# Altium footprint library CONN-TH_MTE210-20RL.PcbLib: 1 footprints
Each footprint in its own frame and in the unit in brackets; x right, y up, seen from the top. Pads: shape width x height; smd on the part's side, far side on the other; paste and mask are expansions set on the pad; w line width, h text height; cw(c..) or ccw(c..) is an arc to the next point about the centre after c.
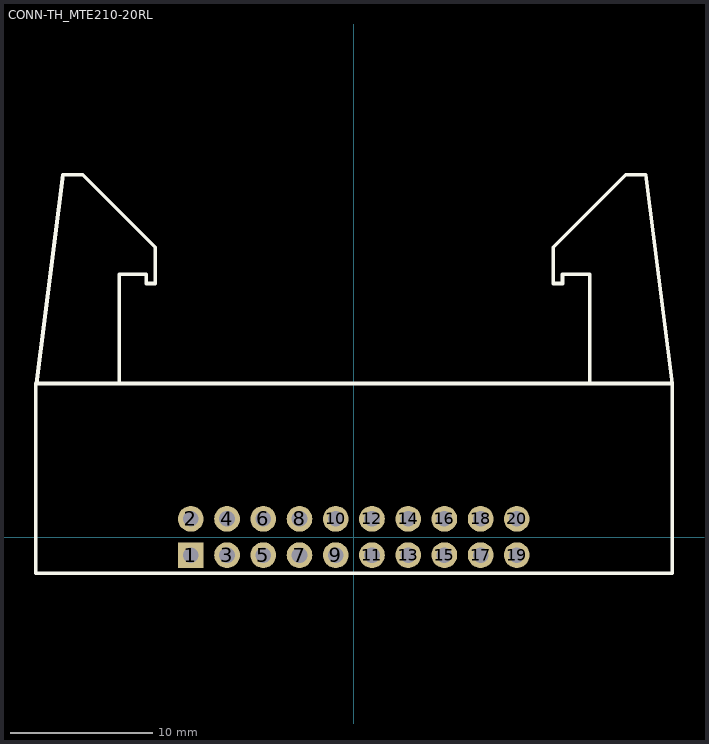
[diagram p0: the footprint, top view; thin cyan lines are the x and y axes]

## CONN-TH_MTE210-20RL [mm]
pads (20):
  rect 1.8x1.8 hole 1.1: 1(-11.43,-1.27)
  round 1.8 hole 1.1: 2(-11.43,1.27) 3(-8.89,-1.27) 4(-8.89,1.27) 5(-6.35,-1.27) 6(-6.35,1.27) 7(-3.81,-1.27) 8(-3.81,1.27) 9(-1.27,-1.27) 10(-1.27,1.27) 11(1.27,-1.27) 12(1.27,1.27) 13(3.81,-1.27) 14(3.81,1.27) 15(6.35,-1.27) 16(6.35,1.27) 17(8.89,-1.27) 18(8.89,1.27) 19(11.43,-1.27) 20(11.43,1.27)
Top Overlay:
  lines w0.254: -22.25,10.76 -20.397,25.4 -19,25.4 -13.92,20.32 -13.92,17.78 -14.555,17.78 -14.555,18.415 -16.46,18.415 -16.458,10.76 ; 16.531,10.76 16.533,18.415 14.628,18.415 14.628,17.78 13.993,17.78 13.993,20.32 19.073,25.4 20.47,25.4 22.323,10.76 22.323,-2.54 ; 22.3,-2.54 -22.3,-2.54 -22.3,10.76 22.3,10.76